# EAGLE library part MICRO_STEP_STEPEPR_DRIVER (library MIA_LIBRARY-2-2)
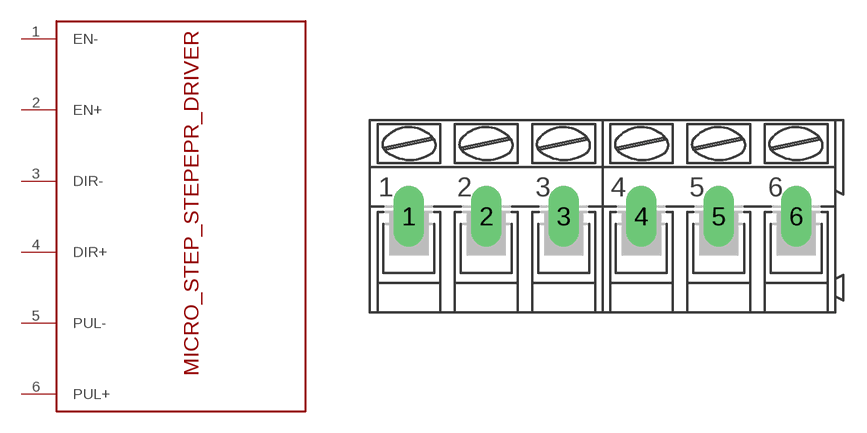
[diagram p60: symbol with the pads of AK300/6; footprint AK300/6]

Designator prefix -

## MICRO_STEP_STEPEPR_DRIVER  [AK300/6]
1  EN-
2  EN+
3  DIR-
4  DIR+
5  PUL-
6  PUL+

## Footprint AK300/6 (pad centres in mm)
CONNECTOR
drill 1.321 long: 1 -12.522,0; 2 -7.518,0; 3 -2.515,0; 4 2.515,0; 5 7.518,0; 6 12.522,0